# Altium schematic symbol library OY472KE.SchLib: 1 symbol
Pins are listed as number, name and electrical type; pins without a type are passive.

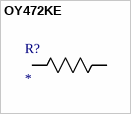
[diagram p0: symbol OY472KE]

## OY472KE
designator R?
No Description Available; Mfr_Name: Ohmite
footprint RES_OY_OHM
pins: 1, 2